# EAGLE library part CONN-DB9 (library QuantumOptics)
D-Type DB-9, AKA DB-9.
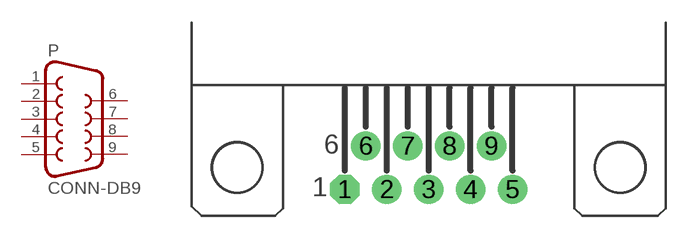
[diagram p15: symbol with the pads of CONN-DB9-HORIZ1; footprint CONN-DB9-HORIZ1]

Designator prefix P

## CONN-DB9H  [CONN-DB9-HORIZ1]
1  1  pas
2  2  pas
3  3  pas
4  4  pas
5  5  pas
6  6  pas
7  7  pas
8  8  pas
9  9  pas

## Footprint CONN-DB9-HORIZ1 (pad centres in mm)
SUB-D9, AKA DB-9, fits AMP 745131 (Digikey.ca A23334-ND) http://rocky.digikey.com/WebLib/Amp/Web%20Data/745131-1.pdf
drill 1.067 pad 1.905 octagon: 1 -5.486,-1.422
drill 1.067 pad 1.905: 2 -2.743,-1.422; 3 0,-1.422; 4 2.743,-1.422; 5 5.486,-1.422; 6 -4.115,1.422; 7 -1.372,1.422; 8 1.372,1.422; 9 4.115,1.422
hole 3.175 at -12.522,0
hole 3.175 at 12.522,0